# Altium footprint library LoraNode_PCBLIB.PcbLib: 1 footprints
Each footprint in its own frame and in the unit in brackets; x right, y up, seen from the top. Pads: shape width x height; smd on the part's side, far side on the other; paste and mask are expansions set on the pad; w line width, h text height; cw(c..) or ccw(c..) is an arc to the next point about the centre after c.
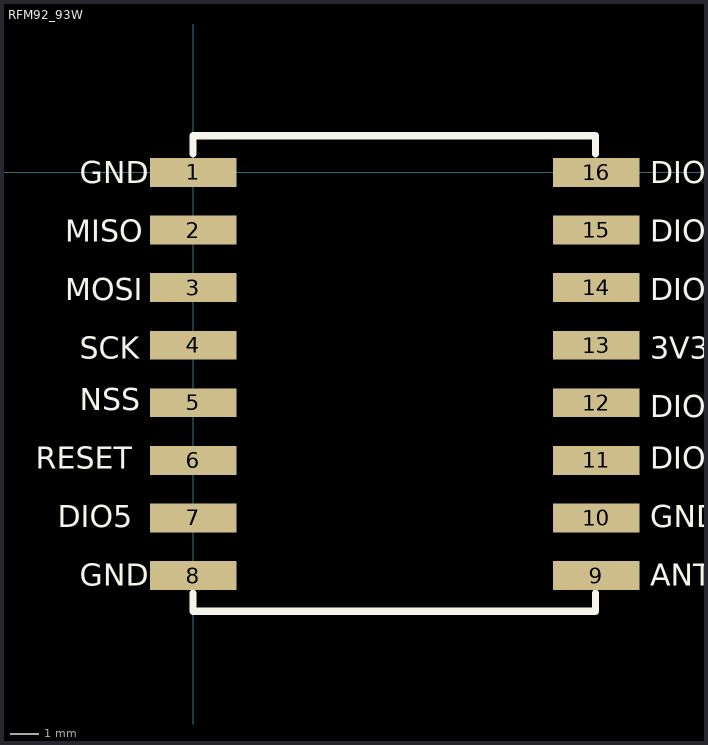
[diagram p0: the footprint, top view; thin cyan lines are the x and y axes]

## RFM92_93W [mm]
pads (16):
  rect 3x1 smd: 1(0,0) 2(0,-2) 3(0,-4) 4(0,-6) 5(0,-8) 6(0,-10) 7(0,-12) 8(0,-14) 9(14,-14) 10(14,-12) 11(14,-10) 12(14,-8) 13(14,-6) 14(14,-4) 15(14,-2) 16(14,0)
Top Overlay:
  lines w0.25: 0,-14.605 0,-15.24 13.97,-15.24 13.97,-14.605 ; 0,0.635 0,1.27 13.97,1.27 13.97,0.635
  text "GND" at -3.937,-0.381 h0.76
  text "MISO" at -4.445,-2.413 h0.76
  text "MOSI" at -4.445,-4.445 h0.76
  text "SCK" at -3.937,-6.477 h0.76
  text "NSS" at -3.937,-8.255 h0.76
  text "RESET" at -5.461,-10.287 h0.76
  text "DIO5" at -4.699,-12.319 h0.76
  text "GND" at -3.937,-14.351 h0.76
  text "DIO2" at 15.875,-0.381 h0.76
  text "DIO1" at 15.875,-2.413 h0.76
  text "DIO0" at 15.875,-4.445 h0.76
  text "3V3" at 15.875,-6.477 h0.76
  text "DIO4" at 15.875,-8.509 h0.76
  text "DIO3" at 15.875,-10.287 h0.76
  text "GND" at 15.875,-12.319 h0.76
  text "ANT" at 15.875,-14.351 h0.76